# EAGLE library part SDA004-7 (library SDA004-7)
DATA BUS TRANSIENT SUPPRESSOR Check availability <https://pricing.snapeda.com/parts/SDA004-7/Diodes%20Inc./view-part?ref=eda>
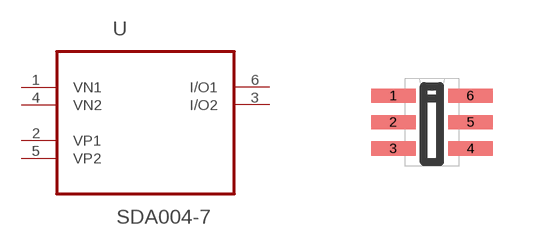
[diagram p0: symbol with the pads of SOT65P210X100-6N; footprint SOT65P210X100-6N]

Designator prefix U

## SDA004-7 (AVAILABILITY: In Stock; CHECK_PRICES: https://www.snapeda.com/parts/SDA004-7/Diodes+Inc./view-part/?ref=eda; DESCRIPTION: - Clamp - Ipp Tvs Diode Surface Mount SOT-363; MF: Diodes Inc.; MP: SDA004-7; PACKAGE: SOT-363 Diodes Inc.; PRICE: None; SNAPEDA_LINK: https://www.snapeda.com/parts/SDA004-7/Diodes+Inc./view-part/?ref=snap)  [SOT65P210X100-6N]
1  VN1  in
2  VP1  in
3  I/O2
4  VN2  in
5  VP2  in
6  I/O1

## Footprint SOT65P210X100-6N (pad centres in mm)
smd 1.118 x 0.356: 1 -0.965,0.66; 2 -0.965,0; 3 -0.965,-0.66; 4 0.965,-0.66; 5 0.965,0; 6 0.965,0.66